# Altium footprint library 53261-0671.PcbLib: 2 footprints
Each footprint in its own frame and in the unit in brackets; x right, y up, seen from the top. Pads: shape width x height; smd on the part's side, far side on the other; paste and mask are expansions set on the pad; w line width, h text height; cw(c..) or ccw(c..) is an arc to the next point about the centre after c.
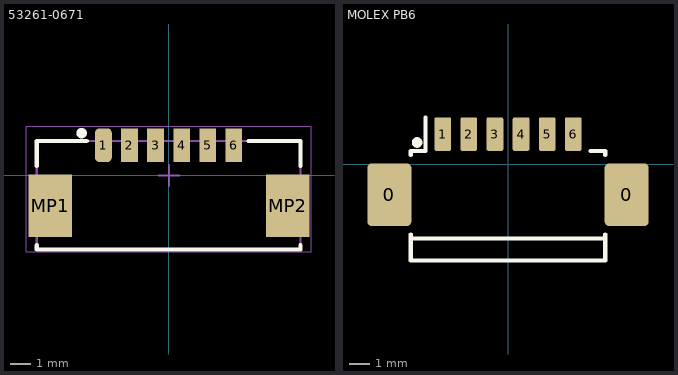
[diagram p0: the footprints below, top view; thin cyan lines are the x and y axes]

## 53261-0671 [mm]
pads (8):
  rrect50% 0.8x1.6 smd: 1(-3.145,1.45)
  rect 0.8x1.6 smd: 2(-1.895,1.45) 3(-0.645,1.45) 4(0.605,1.45) 5(1.855,1.45) 6(3.105,1.45)
  rect 2.1x3 smd: MP1(-5.695,-1.45) MP2(5.695,-1.45)
Top Overlay:
  circle w0.25: c-4.191,2.032 r0.125
  lines w0.2: -6.345,-3.35 -6.345,-3.55 6.305,-3.55 6.305,-3.35 ; -6.345,0.45 -6.345,1.65 -3.945,1.65 ; 3.818,1.65 6.218,1.65 ; 6.305,0.45 6.305,1.65
Mechanical 13:
  lines w0.1: 3.805,1.65 -6.345,1.65 -6.345,-3.55 6.224,-3.55 6.3,-3.474 6.305,-3.474 6.305,1.65
Mechanical 15:
  lines w0.05: -6.845,-3.65 6.825,-3.65 6.825,2.35 -6.845,2.35 -6.845,-3.65
  lines w0.1: -0.5,0 0.5,0 ; 0,-0.5 0,0.5
3D body "53261-0671.step": height 3.4, standoff 0, extent -6.35,-3.55 6.3,1.65

## MOLEX PB6 [mm]
pads (8):
  rrect20% 2.1x3 smd: 0(-5.675,-1.45) 0(5.675,-1.45)
  rrect20% 0.8x1.6 smd: 1(-3.125,1.45) 2(-1.875,1.45) 3(-0.625,1.45) 4(0.625,1.45) 5(1.875,1.45) 6(3.125,1.45)
Top Overlay:
  circle w0.254: c-4.35,1.05 r0.125
  lines w0.2: -4.65,-3.35 -4.65,-3.55 ; -4.65,0.45 -4.65,0.65 -3.95,0.65 -3.95,2.25 ; 3.95,0.65 4.65,0.65 4.65,0.45 ; 4.65,-3.35 4.65,-3.55 ; -4.65,-3.55 -4.65,-4.6 4.65,-4.6 4.65,-3.55 ; -4.65,-3.55 4.65,-3.55
3D body "User Library-molex 53261 (2).step": height 3.5, standoff 0, extent -6.325,-3.55 6.325,1.65